# Altium schematic symbol library CP2102N_QFN20.SchLib: 1 symbol
Pins are listed as number, name and electrical type; pins without a type are passive.

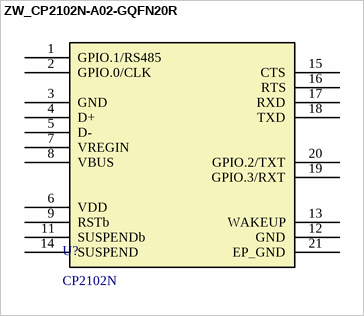
[diagram p0: symbol ZW_CP2102N-A02-GQFN20R]

## ZW_CP2102N-A02-GQFN20R
designator U?, comment CP2102N
footprint ZW_QFN20
pins: 1 GPIO.1/RS485, 2 GPIO.0/CLK, 3 GND, 4 D+, 5 D-, 6 VDD, 7 VREGIN, 8 VBUS, 9 RSTb, 11 SUSPENDb, 12 GND, 13 WAKEUP, 14 SUSPEND, 15 CTS, 16 RTS, 17 RXD, 18 TXD, 19 GPIO.3/RXT, 20 GPIO.2/TXT, 21 EP_GND